# Altium schematic symbol library robot_eseo.SchLib: 97 symbols
Pins are listed as number, name and electrical type; pins without a type are passive.

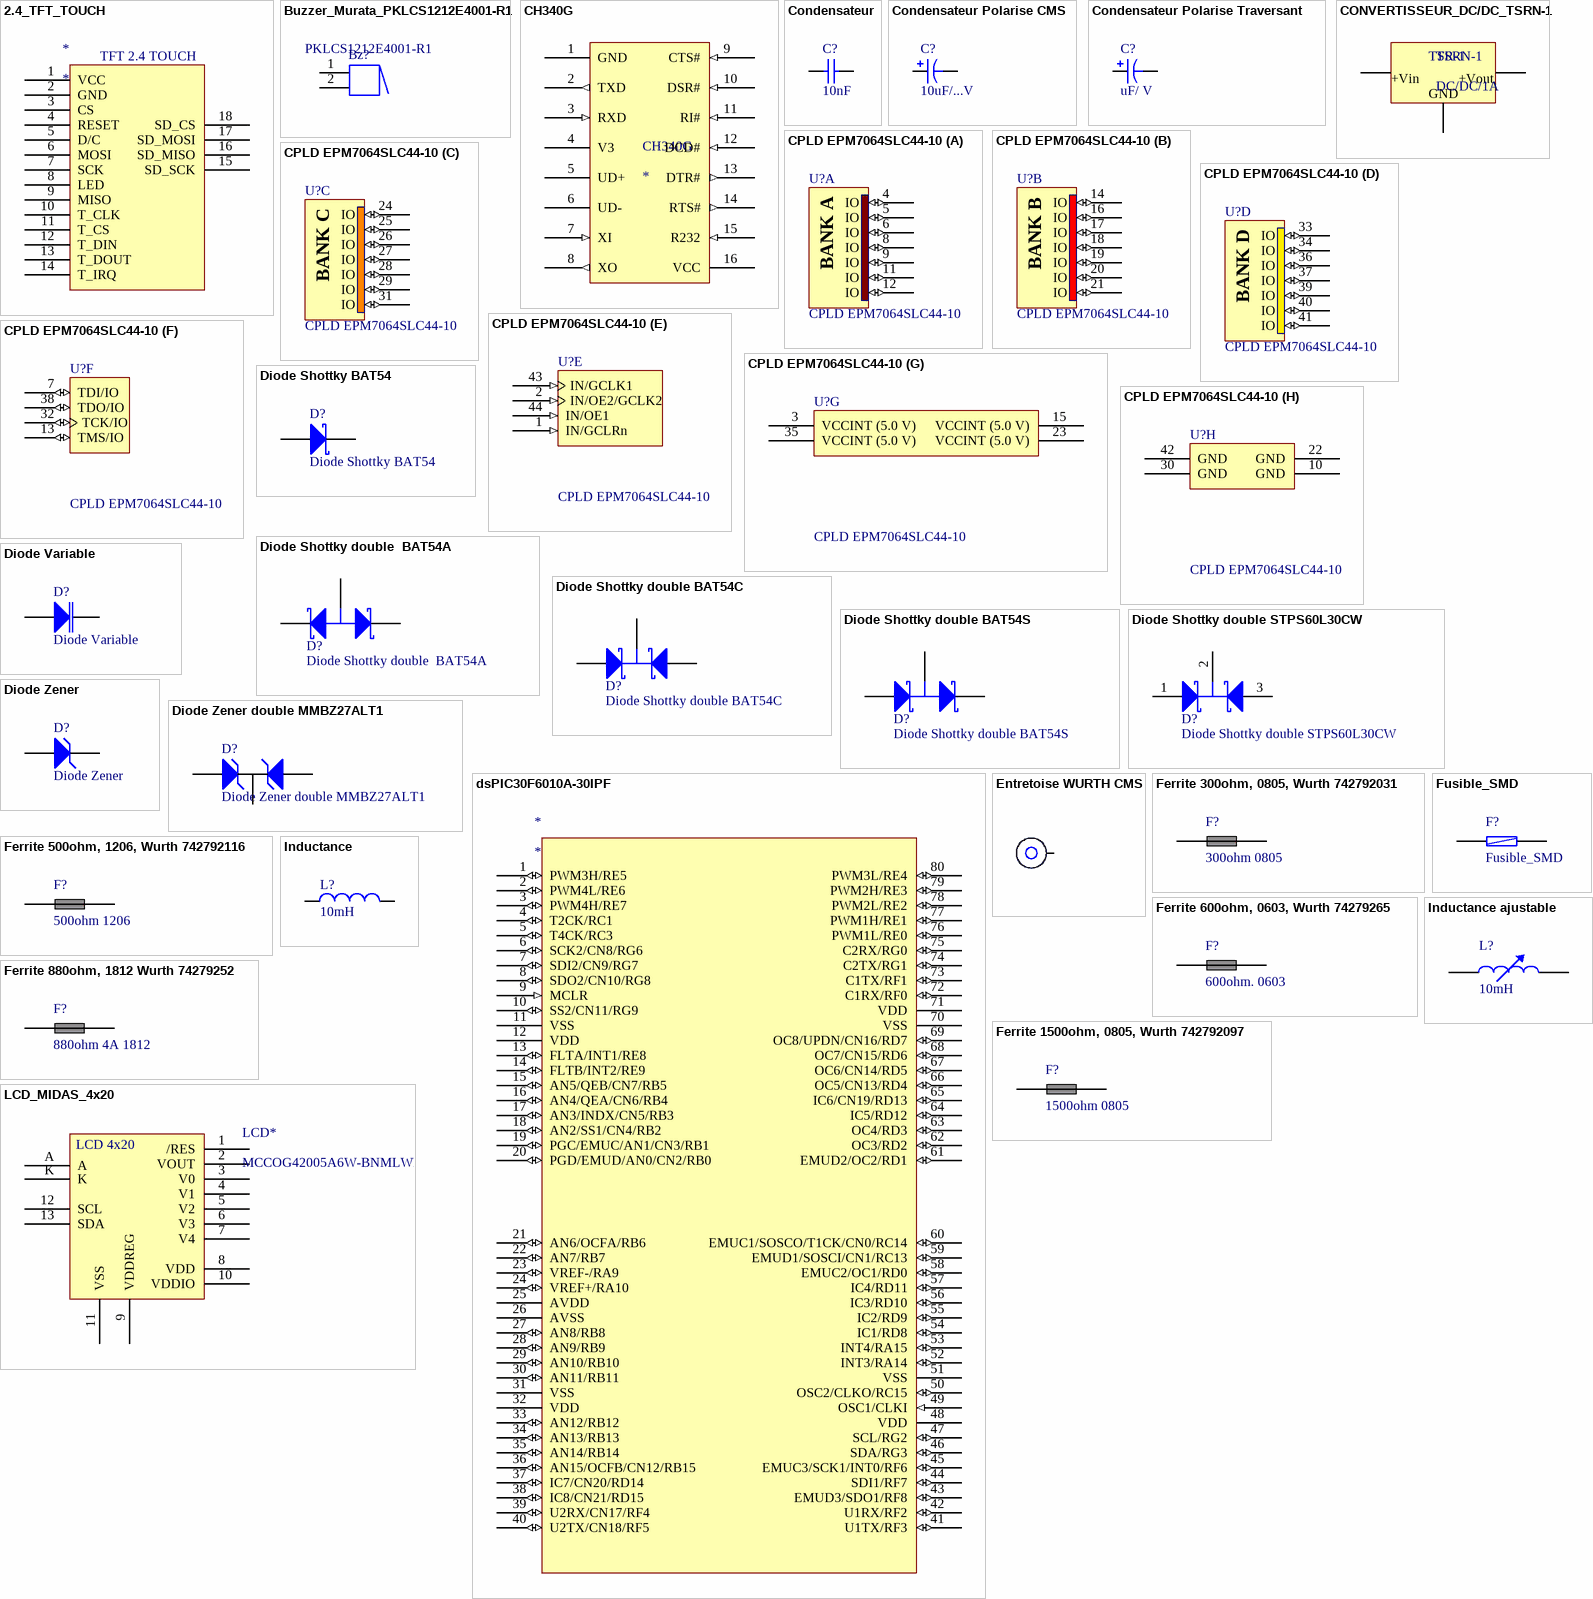
[diagram p0: symbols 2.4_TFT_TOUCH to LCD_MIDAS_4x20]

## 2.4_TFT_TOUCH
designator *
footprint 2.4_TFT_TOUCH
pins: 1 VCC, 2 GND, 3 CS, 4 RESET, 5 D/C, 6 MOSI, 7 SCK, 8 LED, 9 MISO, 10 T_CLK, 11 T_CS, 12 T_DIN, 13 T_DOUT, 14 T_IRQ, 15 SD_SCK, 16 SD_MISO, 17 SD_MOSI, 18 SD_CS
text: TFT 2.4 TOUCH

## Buzzer_Murata_PKLCS1212E4001-R1
designator Bz?  Manufacturer Part Number: PKLCS1212E4001-R1
Buzzer_Murata_PKLCS1212E4001-R1; Manufacturer: MURATA; SVHC: No SVHC (18-Jun-2010); Fonction transducteur: Sounder; Distance, niveau sonore: 10; Longueur/hauteur: 3.0; Profondeur: 12; Fréquence de résonance: 4; Niveau de bruit: 75; RoHS: YES; Category: Capteurs & Transducteurs; Supplier: Farnell; Largeur (externe): 12; ComponentLink1URL: http://www.farnell.com/datasheets/462690.pdf; ComponentLink1Description: http://www.farnell.com/datasheets/462690.pdf; Supplier Part Number: 1192551
footprint Buzzer_Murata PKLCS1212 (Buzzer_SMD_12x12mm Murata PKLCS1212)
pins: 1, 2
1 alternate drawing of the same symbol

## CH340G
designator CH340G
USB to UART
footprint SOP16
pins: 1 GND (power), 2 TXD (out), 3 RXD (in), 4 V3 (power), 5 UD+, 6 UD-, 7 XI (in), 8 XO (out), 9 CTS# (in), 10 DSR# (in), 11 RI# (in), 12 DCD# (in), 13 DTR# (out), 14 RTS# (out), 15 R232 (in), 16 VCC (power)

## Condensateur
designator C?, comment 10nF
Capacitor; Published: 8-Jun-2000; LatestRevisionDate: 17-Jul-2002; LatestRevisionNote: Re-released for DXP Platform.; PackageReference: RAD-0.3; Publisher: Altium Limited
simulation model CAP (Capacitor)
signal-integrity model Cap
footprint C0402_N (Chip Capacitor, Body 1.0x0.5mm, IPC Medium Density)
footprint C0603_N (Chip Capacitor, Body 1.6x0.8mm, IPC Medium Density)
footprint C0805_N (Chip Capacitor, Body 2.0x1.3mm, IPC Medium Density)
footprint C1206_N (Chip Capacitor, Body 3.2x1.6mm, IPC Medium Density)
footprint C1210_N (Chip Capacitor; Body 3.2 x 2.5 mm (LxW typ))
pins: 1, 2

## Condensateur Polarise CMS
designator C?, comment 10uF/...V
Polarized Capacitor; Published: 8-Jun-2000; LatestRevisionDate: 17-Jul-2002; LatestRevisionNote: Re-released for DXP Platform.; PackageReference: POLAR0.8; Publisher: Altium Limited
simulation model CAP (Capacitor)
signal-integrity model Cap Pol
footprint C3216_A_N (Capacitor Tantalium Solid,Caze A, IPC Medium Density)
footprint C3528_B_N (Capacitor Tantalium Solid,Caze B, IPC Medium Density)
footprint C6032_C_N (Capacitor Tantalium Solid,Caze C, IPC Medium Density)
footprint C7343_D_N (Capacitor Tantalium Solid,Caze D, IPC Medium Density)
footprint C7343_E_N (Capacitor Tantalium Solid,Caze E, IPC Medium Density)
footprint C7343_V_N (Capacitor Tantalium Solid,Caze V, IPC Medium Density)
footprint C_4.3mm_B (Capacitor Aluminium Electrolytic,Caze B, IPC Medium Density)
footprint C_5.3mm_C (Capacitor Aluminium Electrolytic,Caze C, IPC Medium Density)
footprint C_6.6mm_D (Capacitor Aluminium Electrolytic,Caze D, IPC Medium Density)
footprint C_6.6mm_D8 (Capacitor Aluminium Electrolytic,Caze D8, IPC Medium Density)
footprint C_8.3mm_E (Capacitor Aluminium Electrolytic,Caze E, IPC Medium Density)
footprint C_8.3mm_F (Capacitor Aluminium Electrolytic,Caze F, IPC Medium Density)
footprint C_13.5mm_H13 (Capacitor Aluminium Electrolytic,Caze H13, IPC Medium Density)
footprint C_17mm_J16 (Capacitor Aluminium Electrolytic,Caze J16, IPC Medium Density)
footprint C_19mm_K16 (Capacitor Aluminium Electrolytic,Caze K16, IPC Medium Density)
pins: 1, 2
1 alternate drawing of the same symbol

## Condensateur Polarise Traversant
designator C?, comment uF/ V
Polarized Capacitor
footprint CAPPR7.5-18X40 (Capacitor, Electrolytic, Radial; Body 18 x 40 mm (Dia.xH typ); Pin Spacing 7.5 mm (typ))
footprint CAPPR7.5-16X40 (Capacitor, Electrolytic, Radial; Body 16 x 40 mm (Dia.xH typ); Pin Spacing 7.5 mm (typ))
footprint CAPPR7.5-18X35.5 (Capacitor, Electrolytic, Radial; Body 18 x 35.5 mm (Dia.xH typ); Pin Spacing 7.5 mm (typ))
pins: 1, 2
1 alternate drawing of the same symbol

## CONVERTISSEUR_DC/DC_TSRN-1
designator TSRN-1, comment DC/DC/1A
CONVERTISSEUR_DC/DC_TSRN-1
footprint CONVERTISSEUR_DC/DC_TSR-1
pins: 1 +Vin, 2 GND, 3 +Vout
text: TSR-1

## CPLD EPM7064SLC44-10
designator U?
MAX 7000S 5V In-System Programmable CPLD, 64 Macrocells, 44-Pin PLCC, Speed Grade 10, Commercial Grade; Published: 24-Nov-2000; LatestRevisionDate: 13-Apr-2006; LatestRevisionNote: IPC-7351 Footprint Added.; DatasheetVersion: ver6.7, Sep-2005; PackageVersion: ver14.3, Jul-2006; PackageReference: PLCC44; Publisher: Altium Limited; PackageDescription: 44-Pin Plastic J-Lead Chip Carrier (PLCC44); Code_JEDEC: MS-018-AC; Code_IPC: PLCC-44; ComponentLink1Description: Manufacturer Link; ComponentLink1URL: http://www.altera.com/products/devices/max7k/m7k-index.html; ComponentLink2Description: Datasheet; ComponentLink2URL: http://www.altera.com/literature/ds/m7000.pdf; ComponentLink3Description: Packaging Specification; ComponentLink3URL: http://www.altera.com/literature/ds/dspkg.pdf
footprint PLCC44_N (Leaded Chip Carrier, 44-Leads, Body 16.6x16.6mm, Pitch 1.27mm, IPC Medium Density)
footprint PLCC44_L (Leaded Chip Carrier, 44-Leads, Body 16.6x16.6mm, Pitch 1.27mm, IPC High Density)
footprint PLCC44_M (Leaded Chip Carrier, 44-Leads, Body 16.6x16.6mm, Pitch 1.27mm, IPC Low Density)
3D model EPM7064S-PLCC44 (44-Pin Plastic J-Lead Chip Carrier (PLCC44))
signal-integrity model 7k (MAX 7000S)
part A pins: 4 IO (io), 5 IO (io), 6 IO (io), 8 IO (io), 9 IO (io), 11 IO (io), 12 IO (io)
part B pins: 14 IO (io), 16 IO (io), 17 IO (io), 18 IO (io), 19 IO (io), 20 IO (io), 21 IO (io)
part C pins: 24 IO (io), 25 IO (io), 26 IO (io), 27 IO (io), 28 IO (io), 29 IO (io), 31 IO (io)
part D pins: 33 IO (io), 34 IO (io), 36 IO (io), 37 IO (io), 39 IO (io), 40 IO (io), 41 IO (io)
part E pins: 1 IN/GCLRn (in), 2 IN/OE2/GCLK2 (in), 43 IN/GCLK1 (in), 44 IN/OE1 (in)
part F pins: 7 TDI/IO (io), 13 TMS/IO (io), 32 TCK/IO (io), 38 TDO/IO (io)
part G pins: 3 VCCINT (5.0 V) (power), 15 VCCINT (5.0 V) (power), 23 VCCINT (5.0 V) (power), 35 VCCINT (5.0 V) (power)
part H pins: 10 GND (power), 22 GND (power), 30 GND (power), 42 GND (power)
part A text: BANK A
part B text: BANK B
part C text: BANK C
part D text: BANK D

## Diode Shottky BAT54
designator D?
DIODE, SCHOTTKY, SOT-23; ComponentLink1URL: http://www.farnell.com/datasheets/62627.pdf; ComponentLink1Description: http://www.farnell.com/datasheets/62627.pdf; Supplier Part Number: 1621832; Supplier: Farnell; Pricing: 10=0,074, 250=0,054, 1000=0,044, 3000=0,038 (EUR); Manufacturer Part Number: BAT54; RoHS: YES
simulation model BAT54 (SUBCKT)
signal-integrity model BAT54
footprint SOT23-3N (SOT23, 3-Leads, Body 2.9x1.3mm, Pitch 0.95mm, Lead Span 2.5mm, IPC Medium Density)
pins: 1 A, 3 K

## Diode Shottky double  BAT54A
designator D?
DIODE SCHOTTKY DOUBLE; Manufacturer: ZETEX; ComponentLink1URL: http://www.farnell.com/datasheets/27632.pdf; ComponentLink1Description: http://www.farnell.com/datasheets/27632.pdf; Supplier Part Number: 9526498; Supplier: Farnell; RoHS: YES; Manufacturer Part Number: BAT54A
simulation model BAT54A (SUBCKT)
signal-integrity model BAT54A
footprint SOT23-3N (SOT23, 3-Leads, Body 2.9x1.3mm, Pitch 0.95mm, Lead Span 2.5mm, IPC Medium Density)
pins: 1 K1, 2 K2, 3 A

## Diode Shottky double BAT54C
designator D?
DIODE SCHOTTKY DOUBLE; Manufacturer: ZETEX; Diode Case Style: SOT-23; Supplier Part Number: 9526501; Supplier: Farnell; ComponentLink1URL: http://www.farnell.com/datasheets/27632.pdf; ComponentLink1Description: http://www.farnell.com/datasheets/27632.pdf; Pricing: 5=0,32, 25=0,23, 100=0,198, 1000=0,154 (EUR); RoHS: YES; Manufacturer Part Number: BAT54C
simulation model BAT54C (SUBCKT)
signal-integrity model BAT54C
footprint SOT23-3N (SOT23, 3-Leads, Body 2.9x1.3mm, Pitch 0.95mm, Lead Span 2.5mm, IPC Medium Density)
pins: 1 A1, 2 A2, 3 K

## Diode Shottky double BAT54S
designator D?
DIODE SCHOTTKY DOUBLE; Manufacturer: ZETEX; ComponentLink1URL: http://www.farnell.com/datasheets/27632.pdf; ComponentLink1Description: http://www.farnell.com/datasheets/27632.pdf; Supplier: Farnell; RoHS: YES; Supplier Part Number: 9526510; Pricing: 5=0,32, 25=0,26, 100=0,21, 1000=0,17 (EUR); Manufacturer Part Number: BAT54S
simulation model BAT54S (SUBCKT)
signal-integrity model BAT54S
footprint SOT23-3N (SOT23, 3-Leads, Body 2.9x1.3mm, Pitch 0.95mm, Lead Span 2.5mm, IPC Medium Density)
pins: 1 A, 2 K, 3 C

## Diode Shottky double STPS60L30CW
designator D?
DIODE SCHOTTKY DOUBLE; Manufacturer Part Number: BAT54C; Manufacturer: ZETEX; Diode Case Style: SOT-23; Supplier Part Number: 9526501; Supplier: Farnell; ComponentLink1URL: http://www.farnell.com/datasheets/27632.pdf; ComponentLink1Description: http://www.farnell.com/datasheets/27632.pdf; Pricing: 5=0,32, 25=0,23, 100=0,198, 1000=0,154 (EUR); RoHS: YES
simulation model BAT54C (SUBCKT)
signal-integrity model BAT54C
footprint TO247 (TO, Thru-Hole, Vertical, Heatsink Mounted; 3 In-Line Leads)
pins: 1 A1, 2 K, 3 A2

## Diode Variable
designator D?
Variable Capacitance Diode; Note: Pin 2 is not connected and not drawn.; Published: 8-Jun-2000; LatestRevisionDate: 17-Jul-2002; LatestRevisionNote: Re-released for DXP Platform.; DatasheetDocument: Jan-1998; PackageReference: SOT23A; Publisher: Altium Limited; Code_JEDEC: SOT23; ComponentLink1Description: Manufacturer Link; ComponentLink1URL: http://www.zetex.com/
simulation model BBY31 (Diode)
signal-integrity model D Varactor
pins: 1 A, 2 K

## Diode Zener
designator D?
Zener Diode
simulation model ZENER (Diode)
pins: 1 A, 2 K

## Diode Zener double MMBZ27ALT1
designator D?
Zener Transient Voltage  Suppressors; Published: 29-Sep-2000; LatestRevisionDate: 17-Jul-2002; LatestRevisionNote: Re-released for DXP Platform.; PackageReference: 318-07; Publisher: Altium Limited; PackageDescription: SOT-23; 3 Leads; Body 3.0 x 2.5 mm, inc. leads (LxW max); ComponentLink1Description: Manufacturer Link; ComponentLink1URL: http://www.onsemi.com/site/products/landing?taxonomyID=194; ComponentLink2Description: Datasheet; ComponentLink2URL: http://www.onsemi.com/pub/Collateral/MMBZ5221BLT1-D.PDF
footprint SOT23-3N (SOT23, 3-Leads, Body 2.9x1.3mm, Pitch 0.95mm, Lead Span 2.5mm, IPC Medium Density)
pins: 1 A1, 2 A2, 3 K

## dsPIC30F6010A-30IPF
designator *
footprint TQFP80_N (80-Pin Thin Plastic Quad Flat Pack 0.65 mm Pitch, IPC Medium Density)
footprint TQFP80_N (80-Pin Thin Plastic Quad Flat Pack 0.65 mm Pitch, IPC Medium Density)
pins: 1 PWM3H/RE5 (io), 2 PWM4L/RE6 (io), 3 PWM4H/RE7 (io), 4 T2CK/RC1 (io), 5 T4CK/RC3 (io), 6 SCK2/CN8/RG6 (io), 7 SDI2/CN9/RG7 (io), 8 SDO2/CN10/RG8 (io), 9 MCLR (in), 10 SS2/CN11/RG9 (io), 11 VSS (power), 12 VDD (power), 13 FLTA/INT1/RE8 (io), 14 FLTB/INT2/RE9 (io), 15 AN5/QEB/CN7/RB5 (io), 16 AN4/QEA/CN6/RB4 (io), 17 AN3/INDX/CN5/RB3 (io), 18 AN2/SS1/CN4/RB2 (io), 19 PGC/EMUC/AN1/CN3/RB1 (io), 20 PGD/EMUD/AN0/CN2/RB0 (io), 21 AN6/OCFA/RB6 (io), 22 AN7/RB7 (io), 23 VREF-/RA9 (io), 24 VREF+/RA10 (io), 25 AVDD (power), 26 AVSS (power), 27 AN8/RB8 (io), 28 AN9/RB9 (io), 29 AN10/RB10 (io), 30 AN11/RB11 (io), 31 VSS (power), 32 VDD (power), 33 AN12/RB12 (io), 34 AN13/RB13 (io), 35 AN14/RB14 (io), 36 AN15/OCFB/CN12/RB15 (io), 37 IC7/CN20/RD14 (io), 38 IC8/CN21/RD15 (io), 39 U2RX/CN17/RF4 (io), 40 U2TX/CN18/RF5 (io), 41 U1TX/RF3 (io), 42 U1RX/RF2 (io), 43 EMUD3/SDO1/RF8 (io), 44 SDI1/RF7 (io), 45 EMUC3/SCK1/INT0/RF6 (io), 46 SDA/RG3 (io), 47 SCL/RG2 (io), 48 VDD (power), 49 OSC1/CLKI (in), 50 OSC2/CLKO/RC15 (io), 51 VSS (power), 52 INT3/RA14 (io), 53 INT4/RA15 (io), 54 IC1/RD8 (io), 55 IC2/RD9 (io), 56 IC3/RD10 (io), 57 IC4/RD11 (io), 58 EMUC2/OC1/RD0 (io), 59 EMUD1/SOSCI/CN1/RC13 (io), 60 EMUC1/SOSCO/T1CK/CN0/RC14 (io), 61 EMUD2/OC2/RD1 (io), 62 OC3/RD2 (io), 63 OC4/RD3 (io), 64 IC5/RD12 (io), 65 IC6/CN19/RD13 (io), 66 OC5/CN13/RD4 (io), 67 OC6/CN14/RD5 (io), 68 OC7/CN15/RD6 (io), 69 OC8/UPDN/CN16/RD7 (io), 70 VSS (power), 71 VDD (power), 72 C1RX/RF0 (io), 73 C1TX/RF1 (io), 74 C2TX/RG1 (io), 75 C2RX/RG0 (io), 76 PWM1L/RE0 (io), 77 PWM1H/RE1 (io), 78 PWM2L/RE2 (io), 79 PWM2H/RE3 (io), 80 PWM3L/RE4 (io)

## Entretoise WURTH CMS
designator MH?
Entretoise Wurth; Publisher: Damien Guitton
footprint ENTRETOISE_CMS (Entretoise CMS Wurth trou 4.4mm)
pins: 1

## Ferrite 300ohm, 0805, Wurth 742792031
designator F?, comment 300ohm 0805
Ferrite 300ohm, 0805, Wurth 742792031; Manufacturer: WURTH ELEKTRONIK; Courant: 3000; Résistance: 0.05; Type de boîtier: 0805; Impédance, typique à 100MHz: 300; Série: WE-CBF; RoHS: YES; Supplier Part Number: 1635734; Supplier: Farnell; Category: Composants passifs; ComponentLink1URL: http://www.farnell.com/datasheets/69101.pdf; ComponentLink1Description: http://www.farnell.com/datasheets/69101.pdf; Manufacturer Part Number: 742792031
footprint R0805_N (Chip Resistor, Body 2.0x1.3mm, IPC Medium Density)
pins: 1, 2

## Ferrite 500ohm, 1206, Wurth 742792116
designator F?, comment 500ohm 1206
Ferrite 500ohm, 1206, Wurth 742792116; Manufacturer: WUERTH ELEKTRONIK; Type de boîtier: 1206; Courant: 2500; Résistance: 0.06; Impédance, typique à 100MHz: 500; Série: WE-CBF; ComponentLink1URL: http://www.farnell.com/datasheets/69169.pdf; ComponentLink1Description: http://www.farnell.com/datasheets/69169.pdf; Category: Composants passifs; RoHS: YES; Manufacturer Part Number: 742792116; Pricing: 1=0,26, 10=0,23, 50=0,21, 100=0,2, 250=0,19 (EUR); Supplier 1: Newark; Supplier Part Number 1: 08P2392; Supplier 2: Farnell; Supplier Part Number 2: 1635757
footprint R1206_N (Chip Resistor, Body 3.2x1.6mm, IPC Medium Density)
pins: 1, 2

## Ferrite 600ohm, 0603, Wurth 74279265
designator F?, comment 600ohm. 0603
Ferrite 600ohm, 0603, Wurth 74279265; Manufacturer: WURTH ELEKTRONIK; Type de boîtier: 0603; Impédance, typique à 100MHz: 600; Courant: 200; Résistance: 0.45; Série: WE-CBF; ComponentLink1URL: http://www.farnell.com/datasheets/68993.pdf; ComponentLink1Description: http://www.farnell.com/datasheets/68993.pdf; Pricing: 1=0,13, 10=0,11, 50=0,1, 100=0,09, 250=0,08 (EUR); Supplier Part Number: 1635691; Supplier: Farnell; RoHS: YES; Category: Composants passifs; Manufacturer Part Number: 74279265
footprint R0603_N (Chip Resistor, Body 1.6x0.8mm, IPC Medium Density)
pins: 1, 2

## Ferrite 880ohm, 1812 Wurth 74279252
designator F?, comment 880ohm 4A 1812
Ferrite 880ohm, 1812 Wurth 74279252; Manufacturer: WUERTH ELEKTRONIK; Impédance, typique à 100MHz: 880; Courant: 4000; Série: WE-CBF; Résistance: 0.035; Type de boîtier: 1812; ComponentLink1URL: http://www.farnell.com/datasheets/494580.pdf; ComponentLink1Description: http://www.farnell.com/datasheets/494580.pdf; Supplier: Farnell; RoHS: YES; Category: Composants passifs; Supplier Part Number: 1635781; Pricing: 1=0,3, 10=0,27, 50=0,25, 100=0,24, 250=0,22 (EUR); Manufacturer Part Number: 74279252
footprint R0603_N (Chip Resistor, Body 1.6x0.8mm, IPC Medium Density)
footprint R1812_N (Molded resistor, 2-Leads, Body 4,5x3,2mm, IPC Medium Density)
pins: 1, 2

## Ferrite 1500ohm, 0805, Wurth 742792097
designator F?, comment 1500ohm 0805
Ferrite 1500ohm, 0805, Wurth 742792097; Manufacturer: WUERTH ELEKTRONIK; Résistance: 0.3; Type de boîtier: 0805; Série: WE-CBF; Impédance, typique à 100MHz: 1500; Courant: 1000; Supplier 1: Farnell; Supplier Part Number 1: 1635738; Supplier 2: Newark; Supplier Part Number 2: 08P2386; ComponentLink1URL: http://www.farnell.com/datasheets/69111.pdf; ComponentLink1Description: http://www.farnell.com/datasheets/69111.pdf; RoHS: YES; Category: Composants passifs; Manufacturer Part Number: 742792097; Pricing: 1=0,2, 10=0,17, 50=0,14, 100=0,13, 250=0,12 (EUR)
footprint R0805_N (Chip Resistor, Body 2.0x1.3mm, IPC Medium Density)
pins: 1, 2

## Fusible_SMD
designator F?
Fuse; Published: 8-Jun-2000; LatestRevisionDate: 17-Jul-2002; LatestRevisionNote: Re-released for DXP Platform.; PackageReference: PIN-W2/E2.8; Publisher: Altium Limited
simulation model FUSE (Spice Subcircuit)
footprint R0805_N (Chip Resistor, Body 2.0x1.3mm, IPC Medium Density)
footprint R0603_N (Chip Resistor, Body 1.6x0.8mm, IPC Medium Density)
pins: 1, 2

## Inductance
designator L?, comment 10mH
Inductor; Code_IEC: 1005; Published: 8-Jun-2000; LatestRevisionDate: 17-Jul-2002; LatestRevisionNote: Re-released for DXP Platform.; PackageReference: 0402-A; Publisher: Altium Limited; Code_JEITA: 0402
simulation model INDUCTOR (Inductor)
signal-integrity model Inductor
footprint R0201_N (Chip Resistor, Body 0.6x0.3mm, IPC Medium Density)
footprint R0402_N (Chip Resistor, Body 1.1x0.5mm, IPC Medium Density)
footprint R0805_N (Chip Resistor, Body 2.0x1.3mm, IPC Medium Density)
footprint R1206_N (Chip Resistor, Body 3.2x1.6mm, IPC Medium Density)
footprint R2010_N (Chip Resistor, Body 5.0x2.5mm, IPC Medium Density)
footprint R2512_N (Chip Resistor, Body 6.3x3.2mm, IPC Medium Density)
footprint INDUCTOR_Wurth_M (Inductor, 2-Leads, Body 8,0x7,3mm, IPC Medium Density)
footprint INDUCTOR_WURTH_XLH (Inductor, 2-Leads, Body 10x10mm, IPC Medium Density)
pins: 1, 2

## Inductance ajustable
designator L?, comment 10mH
Adjustable Inductor; Set Position: 0.5; Published: 24-Mar-1999; LatestRevisionDate: 17-Jul-2002; LatestRevisionNote: Re-released for DXP Platform.; PackageReference: AXIAL-0.8; Publisher: Altium Limited
footprint AXIAL-0.8 (Adjustable Inductor; 2 Leads)
simulation model INDUCTOR (Inductor)
signal-integrity model Inductor Adj
pins: 1, 2

## LCD_MIDAS_4x20
designator LCD*, comment MCCOG42005A6W-BNMLWI
FAR: 2218946
footprint MIDAS_LCD_4X20 (MCCOG42005A6W-BNMLWI)
pins: 1 /RES, 2 VOUT, 3 V0, 4 V1, 5 V2, 6 V3, 7 V4, 8 VDD, 9 VDDREG, 10 VDDIO, 11 VSS, 12 SCL, 13 SDA, A, K
text: LCD 4x20

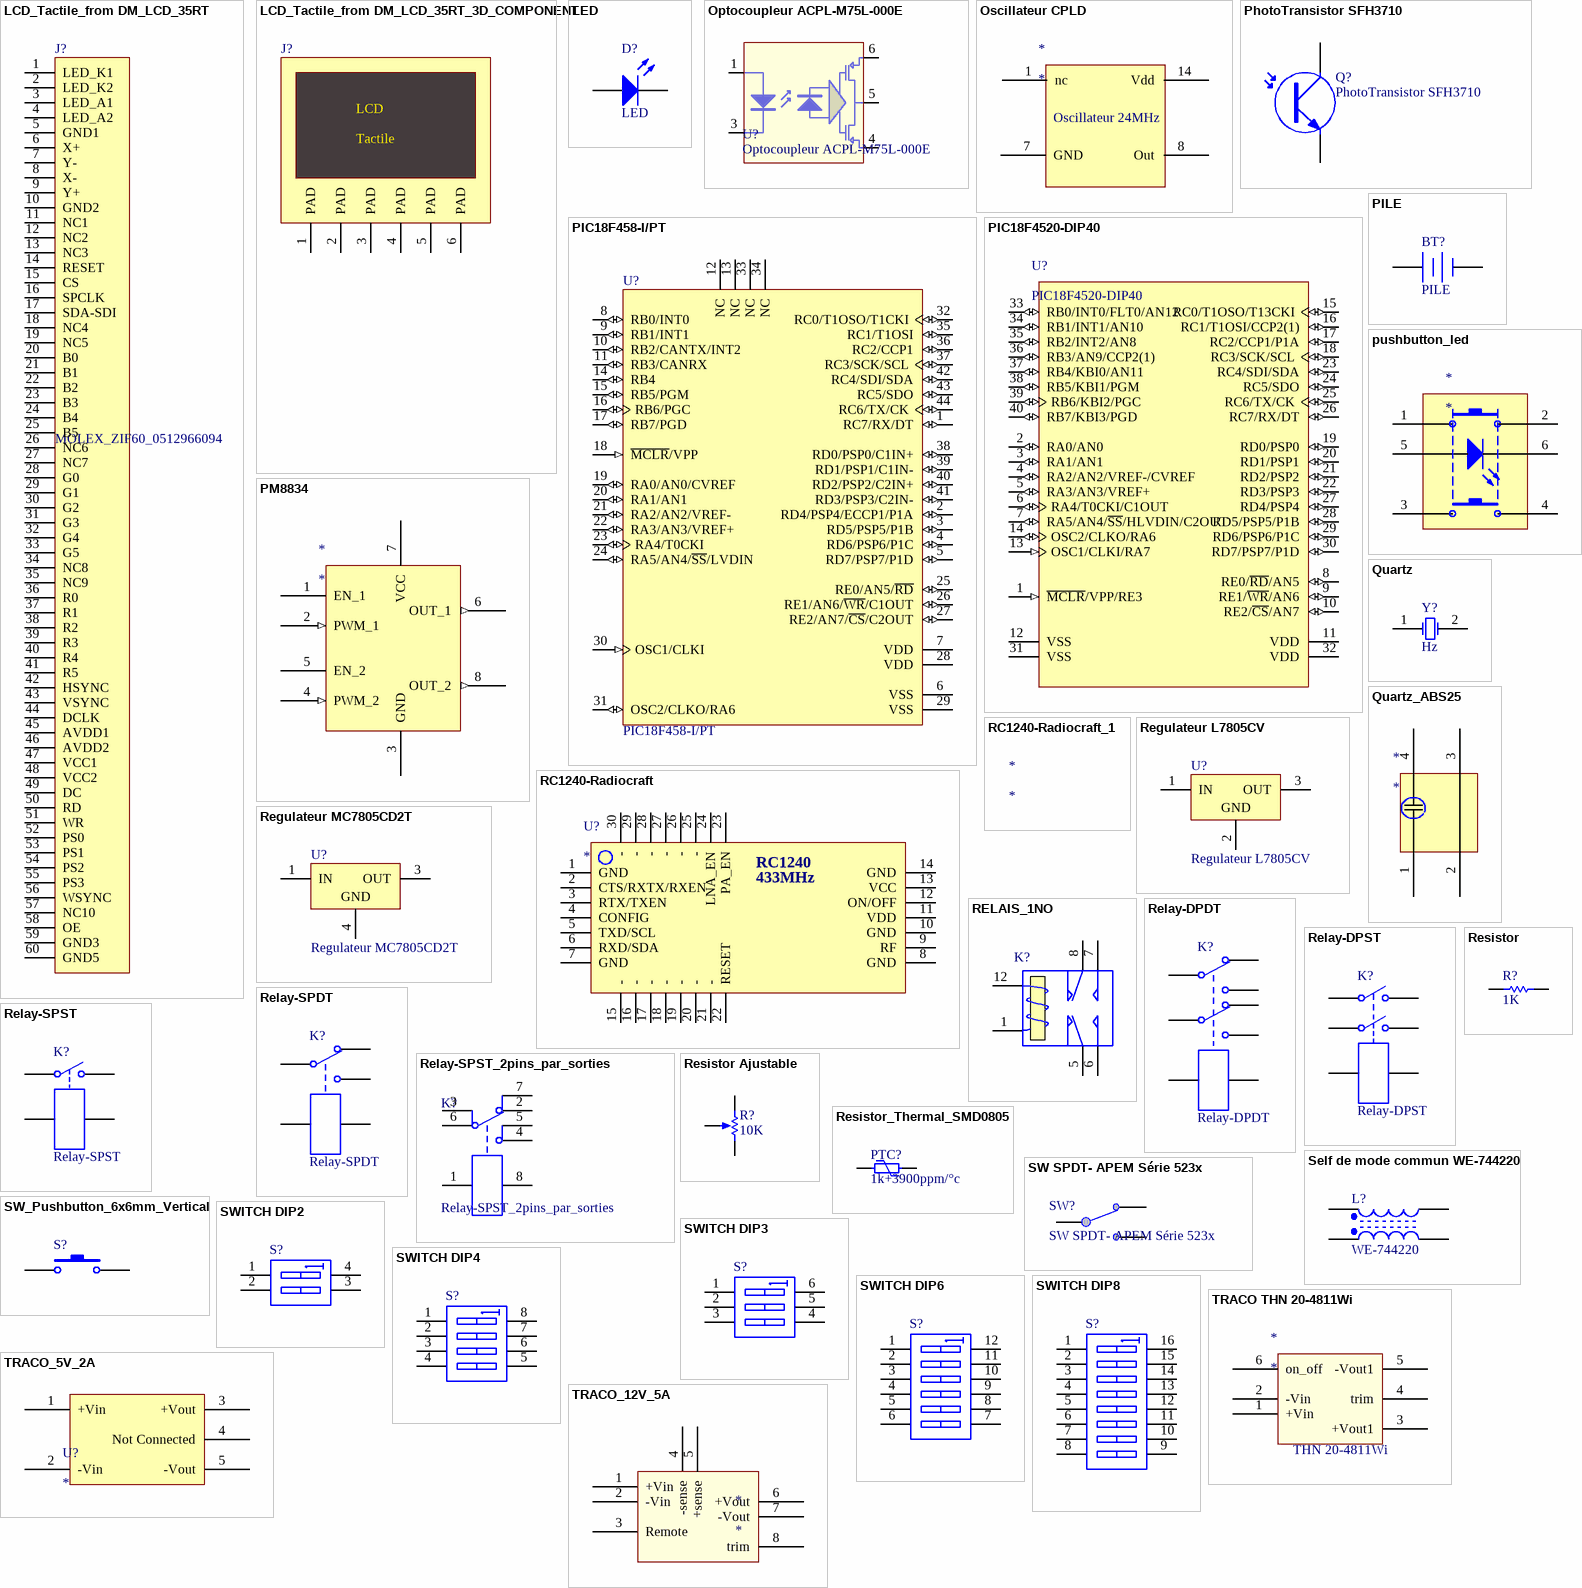
[diagram p1: symbols LCD_Tactile_from DM_LCD_35RT to TRACO_12V_5A]

## LCD_Tactile_from DM_LCD_35RT
designator J?, comment MOLEX_ZIF60_0512966094
Header for ZIF cable, 60-Pin, pitch 0.5mm; LatestRevisionDate: 17-Jul-2002; LatestRevisionNote: Re-released for DXP Platform.; Publisher: Altium Limited
signal-integrity model Connector
footprint ZIF60_0.5MM (Footprint not found)
pins: 1 LED_K1, 2 LED_K2, 3 LED_A1, 4 LED_A2, 5 GND1, 6 X+, 7 Y-, 8 X-, 9 Y+, 10 GND2, 11 NC1, 12 NC2, 13 NC3, 14 RESET, 15 CS, 16 SPCLK, 17 SDA-SDI, 18 NC4, 19 NC5, 20 B0, 21 B1, 22 B2, 23 B3, 24 B4, 25 B5, 26 NC6, 27 NC7, 28 G0, 29 G1, 30 G2, 31 G3, 32 G4, 33 G5, 34 NC8, 35 NC9, 36 R0, 37 R1, 38 R2, 39 R3, 40 R4, 41 R5, 42 HSYNC, 43 VSYNC, 44 DCLK, 45 AVDD1, 46 AVDD2, 47 VCC1, 48 VCC2, 49 DC, 50 RD, 51 WR, 52 PS0, 53 PS1, 54 PS2, 55 PS3, 56 WSYNC, 57 NC10, 58 OE, 59 GND3, 60 GND5

## LCD_Tactile_from DM_LCD_35RT_3D_COMPONENT
designator J?
Header for ZIF cable, 60-Pin, pitch 0.5mm; LatestRevisionDate: 17-Jul-2002; LatestRevisionNote: Re-released for DXP Platform.; Publisher: Altium Limited
signal-integrity model Connector
footprint LCD_FS-K350QVG-V2-F-01 (FS-K350QVG-V2-F-01)
pins: 1 PAD, 2 PAD, 3 PAD, 4 PAD, 5 PAD, 6 PAD
text: LCD; Tactile

## LED
designator D?
Typical LED; Published: 8-Jun-2000; LatestRevisionDate: 08-Jul-2005; LatestRevisionNote: Mech Layer 1 removed.; PackageReference: LED-1; Publisher: Altium Limited
footprint LED_1206 (SM LED; 2 Flat Leads)
footprint LED_0805 (SM LED; 2 Flat Leads)
footprint LED_3mm (LED 3mm; 2 Leads)
footprint LED_5mm (LED 5mm; 2 Leads)
footprint LED_3mm (LED 3mm; 2 Leads)
footprint LED_5mm (LED 5mm; 2 Leads)
footprint LED_0805 (SM LED; 2 Flat Leads)
footprint LED_1206 (SM LED; 2 Flat Leads)
pins: 1 A, 2 K

## Optocoupleur ACPL-M75L-000E
designator U?
Single-channel High Speed 15 MBd CMOS optocoupler; Manufacturer Part Number: ACPL-M61T-500E; Manufacturer: Avago Technologies US Inc.; Package / Case: 5-SOP
footprint SOP5 (Small Outline; 6 Leads (1 Absent); Body Width 4.4 mm; Pitch 1.27 mm)
pins: 1 A "Anode", 3 K "Cathode", 4 GND (power), 5 VO, 6 VDD (power)

## Oscillateur CPLD
designator *
footprint DIL14_OSCILLATEUR (Footprint not found)
pins: 1 nc, 7 GND, 8 Out, 14 Vdd
text: Oscillateur 24MHz

## PhotoTransistor SFH3710
designator Q?
NPN Phototransistor, Osram
footprint LED_0805 (SM LED; 2 Flat Leads)
pins: 1 C, 2 E

## PIC18F458-I/PT
designator U?
High Performance, Enhanced FLASH Microcontroller with CAN, 32K FLASH, 44-Pin TQFP, Standard Volt Range, Industrial Temperature; Published: 11-Oct-2004; LatestRevisionDate: 13-Apr-2006; LatestRevisionNote: IPC-7351 Footprint Added.; DatasheetVersion: DS41159C_2003; PackageVersion: 2003; PackageReference: TQFP-44; Publisher: Altium Limited; PackageDescription: 44-Pin Thin Quad Flat Pack 0.8 mm Pitch, 1.0/0.1 mm Lead Form; Code_JEDEC: MS-026; ComponentLink1Description: Manufacturer Link; ComponentLink1URL: http://www.microchip.com; ComponentLink2Description: Datasheet; ComponentLink2URL: http://ww1.microchip.com/downloads/en/DeviceDoc/41159c.pdf; ComponentLink3Description: Packaging Specification; ComponentLink3URL: http://ww1.microchip.com/downloads/en/PackagingSpec/00049AD.pdf
footprint TQFP-44_N (Thin QFP, 44-Leads, Body 10x10mm, Pitch 0.8mm, IPC Medium Density)
pins: 1 RC7/RX/DT (io), 2 RD4/PSP4/ECCP1/P1A (io), 3 RD5/PSP5/P1B (io), 4 RD6/PSP6/P1C (io), 5 RD7/PSP7/P1D (io), 6 VSS (power), 7 VDD (power), 8 RB0/INT0 (io), 9 RB1/INT1 (io), 10 RB2/CANTX/INT2 (io), 11 RB3/CANRX (io), 12 NC, 13 NC, 14 RB4 (io), 15 RB5/PGM (io), 16 RB6/PGC (io), 17 RB7/PGD (io), 18 ~{MCLR}/VPP (in), 19 RA0/AN0/CVREF (io), 20 RA1/AN1 (io), 21 RA2/AN2/VREF- (io), 22 RA3/AN3/VREF+ (io), 23 RA4/T0CKI (io), 24 RA5/AN4/~{SS}/LVDIN (io), 25 RE0/AN5/~{RD} (io), 26 RE1/AN6/~{WR}/C1OUT (io), 27 RE2/AN7/~{CS}/C2OUT (io), 28 VDD (power), 29 VSS (power), 30 OSC1/CLKI (in), 31 OSC2/CLKO/RA6 (io), 32 RC0/T1OSO/T1CKI (io), 33 NC, 34 NC, 35 RC1/T1OSI (io), 36 RC2/CCP1 (io), 37 RC3/SCK/SCL (io), 38 RD0/PSP0/C1IN+ (io), 39 RD1/PSP1/C1IN- (io), 40 RD2/PSP2/C2IN+ (io), 41 RD3/PSP3/C2IN- (io), 42 RC4/SDI/SDA (io), 43 RC5/SDO (io), 44 RC6/TX/CK (io)

## PIC18F4520-DIP40
designator U?
High Performance, Enhanced Flash Microcontrollers  with 10-Bit A/D, 32K FLASH, 40-Pin PDIP, Standard Volt Range, Industrial Temperature; Type: PIC18F4520-DIP40
footprint DIP40(15.24) (DIP, Ceramic, Window; 40 Leads; Row Spacing 15.24 mm; Pitch 2.54 mm)
pins: 1 ~{MCLR}/VPP/RE3 (in), 2 RA0/AN0 (io), 3 RA1/AN1 (io), 4 RA2/AN2/VREF-/CVREF (io), 5 RA3/AN3/VREF+ (io), 6 RA4/T0CKI/C1OUT (io), 7 RA5/AN4/~{SS}/HLVDIN/C2OUT (io), 8 RE0/~{RD}/AN5 (io), 9 RE1/~{WR}/AN6 (io), 10 RE2/~{CS}/AN7 (io), 11 VDD (power), 12 VSS (power), 13 OSC1/CLKI/RA7 (in), 14 OSC2/CLKO/RA6 (io), 15 RC0/T1OSO/T13CKI (io), 16 RC1/T1OSI/CCP2(1) (io), 17 RC2/CCP1/P1A (io), 18 RC3/SCK/SCL (io), 19 RD0/PSP0 (io), 20 RD1/PSP1 (io), 21 RD2/PSP2 (io), 22 RD3/PSP3 (io), 23 RC4/SDI/SDA (io), 24 RC5/SDO (io), 25 RC6/TX/CK (io), 26 RC7/RX/DT (io), 27 RD4/PSP4 (io), 28 RD5/PSP5/P1B (io), 29 RD6/PSP6/P1C (io), 30 RD7/PSP7/P1D (io), 31 VSS (power), 32 VDD (power), 33 RB0/INT0/FLT0/AN12 (io), 34 RB1/INT1/AN10 (io), 35 RB2/INT2/AN8 (io), 36 RB3/AN9/CCP2(1) (io), 37 RB4/KBI0/AN11 (io), 38 RB5/KBI1/PGM (io), 39 RB6/KBI2/PGC (io), 40 RB7/KBI3/PGD (io)

## PILE
designator BT?
Multicell Battery; Published: 24-Mar-1999; LatestRevisionDate: 17-Jul-2002; LatestRevisionNote: Re-released for DXP Platform.; PackageReference: BAT-2; Publisher: Altium Limited
footprint PILE_CR2032_H (Pile Lithium; CR2032; Horizontal; Fix:18mm/10.16mm)
footprint PILE_CR2032_V (Pile Lithium; CR2032; Vertical; 10X4.2mm:Fix; Diameter:21.5)
footprint PILE_LITHIUM_3.6V_LR6 (Lithium SL760/pr; 50.5mm/14.7mm; Pad Spacing=50.5mm/10.16mm)
footprint SUPPORT_PILE_9V (AA SIZE BATTERY HOLDER; Open style; Pin Spacing Fix=14mm; Pin Spacing=12.7mm)
footprint SUPPORT_PILE_LR03 (AAA SIZE BATTERY HOLDER; Open style; Pin Spacing Fix=27.9mm; Pin Spacing=48.9mm)
footprint SUPPORT_PILE_LR6 (AA SIZE BATTERY HOLDER; Open style; Pin Spacing Fix=33mm; Pin Spacing=56.8mm)
pins: 1 +, 2 -

## PM8834
designator *
4 A dual low-side MOSFET driver
footprint SO8_N (8-Pin Small Outline Integrated Circuit 1.27 mm Pitch, IPC Medium Density)
pins: 1 EN_1, 2 PWM_1 (in), 3 GND (power), 4 PWM_2 (in), 5 EN_2, 6 OUT_1 (out), 7 VCC (power), 8 OUT_2 (out)

## pushbutton_led
designator *
footprint PUSHBUTTON_LED
pins: 1, 2 3, 3, 4, 5 +, 6 -

## Quartz
designator Y?, comment Hz
Crystal Oscillator; Published: 8-Jun-2000; LatestRevisionDate: 17-Jul-2002; LatestRevisionNote: Re-released for DXP Platform.; PackageReference: R38; Publisher: Altium Limited
simulation model XTAL (Spice Subcircuit)
footprint HC49/4H_SMX (Quartz Crystal, SM; Body 13.4 (inc. leads) x 4.9 mm (LxW max))
footprint HC49US (Quartz Crystal, HC49 Bas profil, Pas 4,88mm)
pins: 1 OSC1, 2 OSC2

## Quartz_ABS25
designator *
footprint Quartz_ABS25
pins: 1, 2, 3, 4

## RC1240-Radiocraft
designator U?
RC1240 - Radiocraft 433MHz Transceiver
footprint RC1240
pins: 1 GND, 2 CTS/RXTX/RXEN, 3 RTX/TXEN, 4 CONFIG, 5 TXD/SCL, 6 RXD/SDA, 7 GND, 8 GND, 9 RF, 10 GND, 11 VDD, 12 ON/OFF, 13 VCC, 14 GND, 15 -, 16 -, 17 -, 18 -, 19 -, 20 -, 21 -, 22 RESET, 23 PA_EN, 24 LNA_EN, 25 -, 26 -, 27 -, 28 -, 29 -, 30 -
text: RC1240; 433MHz

## RC1240-Radiocraft_1
designator *

## Regulateur L7805CV
designator U?
Positive Voltage Regulator; Note: Tab is connected to pin 3 (GND).; Published: 24-Aug-2001; LatestRevisionDate: 17-Jul-2002; LatestRevisionNote: Re-released for DXP Platform.; DatasheetVersion: Dec-1998; PackageVersion: Jun-1998; PackageReference: TO220; Publisher: Altium Limited; PackageDescription: TO, Thru-Hole, Vertical, Heatsink Mounted; 3 In-Line Leads; Pitch 2.54 mm; Pin sequence 1, 3, 2; ComponentLink1Description: Manufacturer Link; ComponentLink1URL: http://www.st.com/
footprint TO220 (TO, Thru-Hole, Vertical, Heatsink Mounted; 3 In-Line Leads; Pitch 2.54 mm)
footprint D2Pak (123) (D2-PAK; 3 Leads (1 Cropped); Body 15.2 (inc. leads) x 10.9 mm (LxW max))
pins: 1 IN (power), 2 GND (power), 3 OUT (power)

## Regulateur MC7805CD2T
designator U?
Three-Terminal Positive Voltage Regulator; Note: Pin 2 is electrically connected to Pin 4; Pin 2 is trimmed and not drawn;; Published: 15-Apr-2002; DatasheetVersion: 1997; PackageVersion: 1997; PackageReference: 936-03; Publisher: Altium Limited; PackageDescription: D2-PAK/TO-263-AB; 3 Leads (1 Cropped); Body 14.7 (inc. leads) x 10.2 mm (LxW max); ComponentLink1Description: Manufacturer Link; ComponentLink1URL: http://www.onsemi.com/site/products/taxonomy/0,4438,503,00.html; ComponentLink2Description: Datasheet; ComponentLink2URL: http://www.onsemi.com/pub/Collateral/MC7800-D.PDF
footprint D2Pak (134) (D2-PAK; 3 Leads (1 Cropped); Body 15.2 (inc. leads) x 10.9 mm (LxW max))
pins: 1 IN (power), 3 OUT (power), 4 GND (power)

## RELAIS_1NO
designator K?  (value not drawn)
HF115F-I/024-1H3AF(610); Type: RELAIS_3022
simulation model SPDTRELAY (Spice Subcircuit)
footprint Relay_1NO (HF115F-I/024-1H3AF(610))
pins: 1 T2, 5 COM, 6 NO, 7 NO, 8 COM, 12 T1

## Relay-DPDT
designator K?
Dual-Pole Dual-Throw Relay; Published: 24-Mar-1999; LatestRevisionDate: 17-Jul-2002; LatestRevisionNote: Re-released for DXP Platform.; PackageReference: DIP-P8; Publisher: Altium Limited
footprint DIP-P8 (Dual-Pole Dual-Throw Relay; 8 Leads)
simulation model DPDTRELAY (Spice Subcircuit)
pins: 1, 2, 3, 4, 5, 6, 7, 8

## Relay-DPST
designator K?
Dual-Pole Single-Throw Relay; Published: 24-Mar-1999; LatestRevisionDate: 17-Jul-2002; LatestRevisionNote: Re-released for DXP Platform.; PackageReference: MODULE6; Publisher: Altium Limited
footprint MODULE6 (DIP; 6 Round Pins; Row Space 20.32 mm; Pitch 2.54 mm)
simulation model DPSTRELAY (Spice Subcircuit)
pins: 1, 2, 3, 4, 5, 6

## Relay-SPDT
designator K?
Single-Pole Dual-Throw Relay; Published: 24-Mar-1999; LatestRevisionDate: 17-Jul-2002; LatestRevisionNote: Re-released for DXP Platform.; PackageReference: MODULE5B; Publisher: Altium Limited
footprint MODULE5B (DIP; 5 Round Pins; Row Space 15.24 mm; Pitch 2.54 mm)
simulation model SPDTRELAY (Spice Subcircuit)
pins: 1, 2, 3, 4, 5

## Relay-SPST
designator K?
Single-Pole Single-Throw Relay; Published: 24-Mar-1999; LatestRevisionDate: 17-Jul-2002; LatestRevisionNote: Re-released for DXP Platform.; PackageReference: MODULE4; Publisher: Altium Limited
footprint MODULE4 (DIP; 4 Round Pins; Row Space 27.94 mm; Pitch 15.24 mm)
simulation model SPSTRELAY (Spice Subcircuit)
pins: 1, 2, 3, 4

## Relay-SPST_2pins_par_sorties
designator K?
OZ-SS-105LM1,200 - Single-Pole Single-Throw Relay; Published: 24-Mar-1999; LatestRevisionDate: 17-Jul-2002; LatestRevisionNote: Re-released for DXP Platform.; PackageReference: MODULE4; Publisher: Altium Limited
footprint RELAY_TECONNECTIVITY (OZ-SS-105LM1,200)
pins: 1, 2, 3, 4, 5, 6, 7, 8

## Resistor
designator R?, comment 1K
Resistor; Published: 8-Jun-2000; LatestRevisionDate: 17-Jul-2002; LatestRevisionNote: Re-released for DXP Platform.; PackageReference: AXIAL-0.5; Publisher: Altium Limited
simulation model RES (Semiconductor Resistor)
signal-integrity model Res Semi
footprint R0402_N (Chip Resistor, Body 1.1x0.5mm, IPC Medium Density)
footprint R0603_N (Chip Resistor, Body 1.6x0.8mm, IPC Medium Density)
footprint R1206_N (Chip Resistor, Body 3.2x1.6mm, IPC Medium Density)
footprint R0805_N (Chip Resistor, Body 2.0x1.3mm, IPC Medium Density)
pins: 1, 2

## Resistor Ajustable
designator R?, comment 10K
Resistor Ajustable; Sim Note: Enter the Resistance value and the set point into parameter fields.; Set Position: 0.5; Published: 8-Jun-2000; LatestRevisionDate: 17-Jul-2002; LatestRevisionNote: Re-released for DXP Platform.; PackageReference: VR5; Publisher: Altium Limited
simulation model POT (Potentiometer)
footprint POT_3150W_CMS a modifier (Trimmer CMS 3150W Tyco)
pins: 1 TOP, 2 TAP, 3 BOT
1 alternate drawing of the same symbol

## Resistor_Thermal_SMD0805
designator PTC?, comment 1k+3900ppm/°c
Resistor_Thermal_SMD0805; Published: 8-Jun-2000; LatestRevisionDate: 17-Jul-2002; LatestRevisionNote: Re-released for DXP Platform.; PackageReference: AXIAL-0.5; Publisher: Altium Limited
footprint R0805_N (Chip Resistor, Body 2.0x1.3mm, IPC Medium Density)
pins: 1, 2

## Self de mode commun WE-744220
designator L?, comment WE-744220
Self de mode commun, Wurth Elektronik, WE-SL2; Manufacturer Part Number: 744220; Inductance: 4.7; DC Current Rating: 500; Max DC Resistance: 0.75; Core Material: Ferrite; Inductor Case Style: 74422; Tolérance d'inductance: ± 50%; RoHS: YES; Série: WE-SL2; Supplier: Farnell; Supplier Part Number: 1636277; Category: Composants passifs; ComponentLink1URL: http://www.farnell.com/datasheets/70375.pdf; ComponentLink1Description: http://www.farnell.com/datasheets/70375.pdf; Pricing: 1=2,1, 10=1,95, 50=1,8, 100=1,69, 250=1,59 (EUR); Manufacturer: WURTH ELEKTRONIK
signal-integrity model Inductor Isolated
footprint Self de mode commun Wurth Elektronik WE-SL2
pins: 1, 2, 3, 4

## SW SPDT- APEM Série 523x
designator SW?
Switch unipolaire a levier
pins: COMMON1, NC1, NO1

## SW_Pushbutton_6x6mm_Vertical
designator S?
Switch tactil 6mm x 6mm Vertical; Published: 27/11/09; PackageReference: 6mm X 6mm; Publisher: Damien Guitton
footprint Switch 6x6 Vertical
footprint Switch 6x6 Vertical  CMS (Switch tactil 6x6 Vertical  CMS)
pins: 1, 3

## SWITCH DIP2
designator S?
DIP Switch, 2 Position, SPST; Published: 24-Mar-1999; LatestRevisionDate: 17-Jul-2002; LatestRevisionNote: Re-released for DXP Platform.; PackageReference: DIP-4; Publisher: Altium Limited
simulation model dpsw2 (Spice Subcircuit)
footprint DIPSW2 (Thru-Hole DIP Switches; SPST; 2 Position; Pin Spacing=2.54mm)
pins: 1 A1, 2 A2, 3 B2, 4 B1

## SWITCH DIP3
designator S?
DIP Switch, 3 Position, SPST; Published: 24-Mar-1999; LatestRevisionDate: 17-Jul-2002; LatestRevisionNote: Re-released for DXP Platform.; PackageReference: DIP-6; Publisher: Altium Limited; Code_JEDEC: MO-001-AM
simulation model dpsw3 (Spice Subcircuit)
footprint DIPSW3 (Thru-Hole DIP Switches; SPST; 3 Position; Pin Spacing=2.54mm)
pins: 1 A1, 2 A2, 3 A3, 4 B3, 5 B2, 6 B1

## SWITCH DIP4
designator S?
DIP Switch, 4 Position, SPST; Published: 24-Mar-1999; LatestRevisionDate: 17-Jul-2002; LatestRevisionNote: Re-released for DXP Platform.; PackageReference: SO8; Publisher: Altium Limited; Code_JEDEC: MS-012-AA; Code_IPC: SO8
simulation model dpsw4 (Spice Subcircuit)
footprint DIPSW4 (Thru-Hole DIP Switches; SPST; 4 Position; Pin Spacing=2.54mm)
pins: 1 A1, 2 A2, 3 A3, 4 A4, 5 B4, 6 B3, 7 B2, 8 B1

## SWITCH DIP6
designator S?
DIP Switch, 6 Position, SPST; Published: 24-Mar-1999; LatestRevisionDate: 17-Jul-2002; LatestRevisionNote: Re-released for DXP Platform.; PackageReference: DIP-12/SW; Publisher: Altium Limited
simulation model dpsw6 (Spice Subcircuit)
footprint DIPSW6 (Thru-Hole DIP Switches; SPST; 6 Position; Pin Spacing=2.54mm)
pins: 1 A1, 2 A2, 3 A3, 4 A4, 5 A5, 6 A6, 7 B6, 8 B5, 9 B4, 10 B3, 11 B2, 12 B1

## SWITCH DIP8
designator S?
DIP Switch, 8 Position, SPST; Published: 24-Mar-1999; LatestRevisionDate: 17-Jul-2002; LatestRevisionNote: Re-released for DXP Platform.; PackageReference: DIP_SW_8WAY_SMD; Publisher: Altium Limited
simulation model dpsw8 (Spice Subcircuit)
footprint DIPSW8 (Thru-Hole DIP Switches; SPST; 8 Position; Pin Spacing=2.54mm)
pins: 1 A1, 2 A2, 3 A3, 4 A4, 5 A5, 6 A6, 7 A7, 8 A8, 9 B8, 10 B7, 11 B6, 12 B5, 13 B4, 14 B3, 15 B2, 16 B1

## TRACO THN 20-4811Wi
designator *  Ref: THN 20-4811Wi
Traco 20W 24V to 5V*4A
footprint TRACO_THN20 (THN20)
pins: 1 +Vin, 2 -Vin, 3 +Vout1, 4 trim, 5 -Vout1, 6 on_off

## TRACO_5V_2A
designator U?
TEN102411
footprint TRACO_TEN10 (Single TRACO-POWER module TEN10)
pins: 1 +Vin, 2 -Vin, 3 +Vout, 4 Not Connected, 5 -Vout

## TRACO_12V_5A
designator *
footprint TRACO_SIMPLE_12V_5A (DoubleTRACO-POWER module)
pins: 1 +Vin, 2 -Vin, 3 Remote, 4 -sense, 5 +sense, 6 +Vout, 7 -Vout, 8 trim

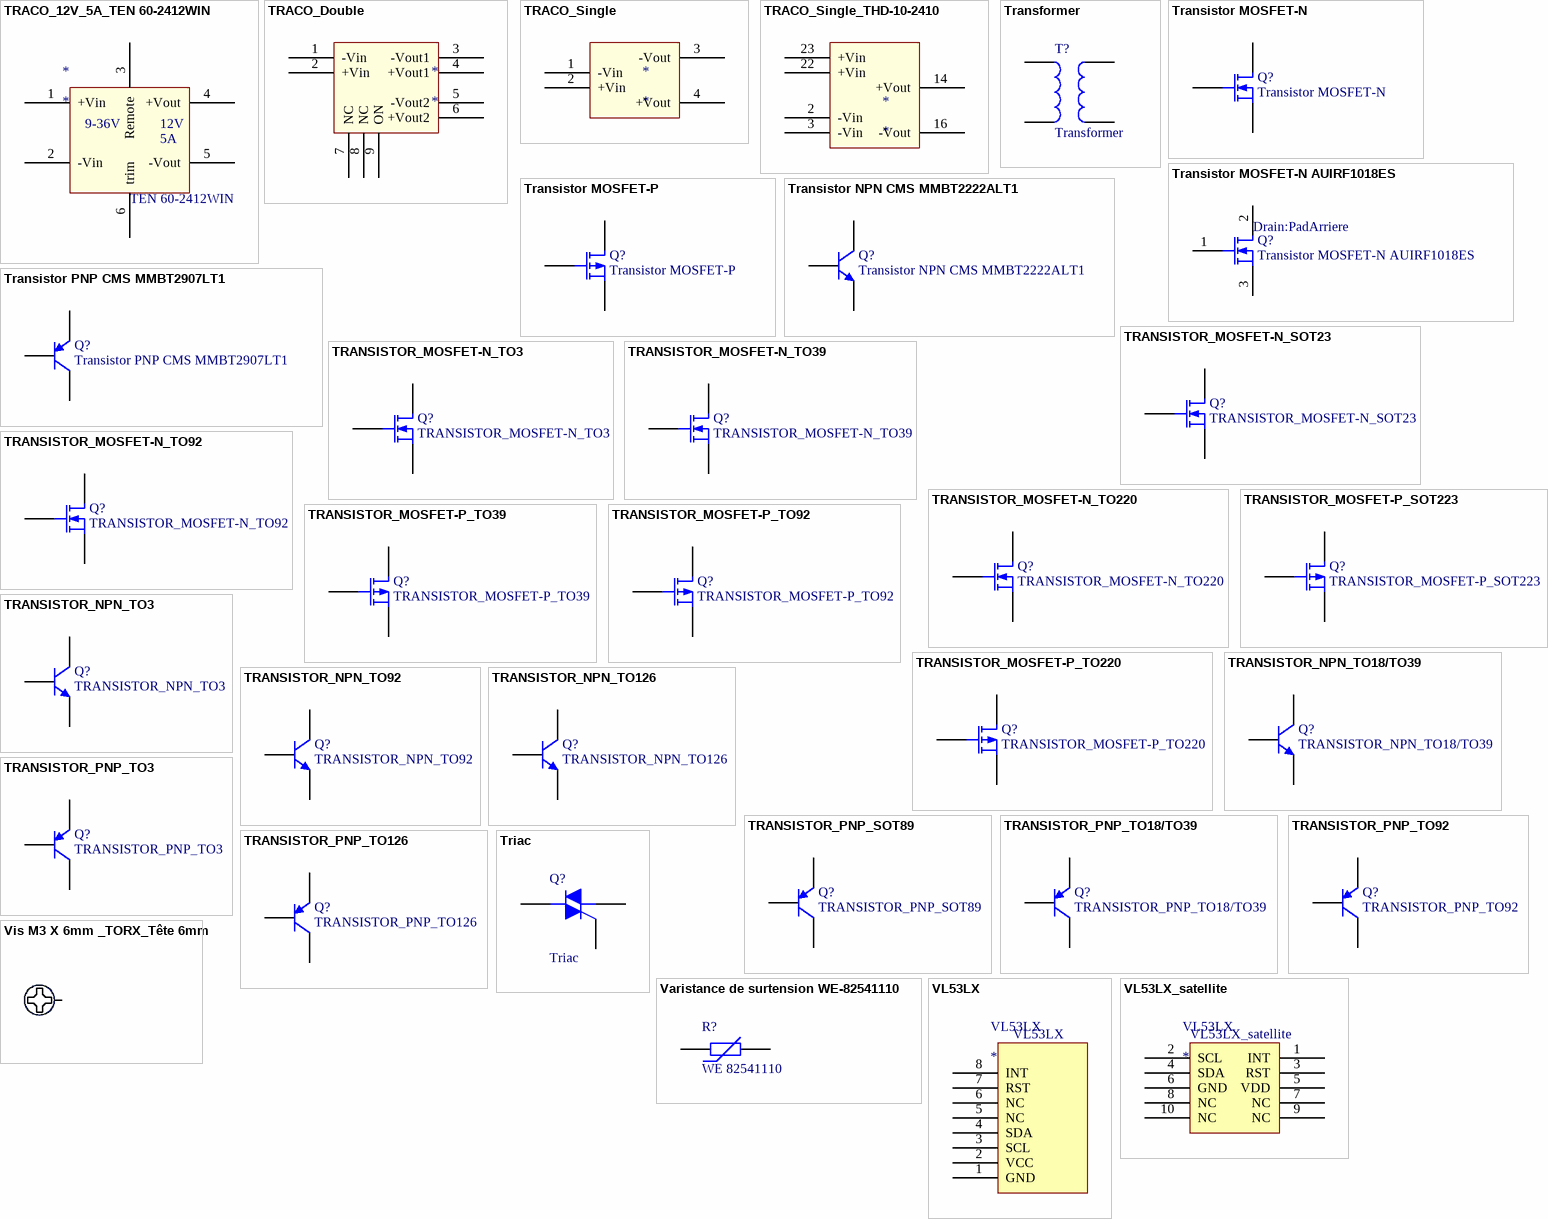
[diagram p2: symbols TRACO_12V_5A_TEN 60-2412WIN to VL53LX_satellite]

## TRACO_12V_5A_TEN 60-2412WIN
designator *
footprint TRACO_TEN60 (Single TRACO-POWER module TEN60)
pins: 1 +Vin, 2 -Vin, 3 Remote, 4 +Vout, 5 -Vout, 6 trim
text: 9-36V; 12V; 5A; TEN 60-2412WIN

## TRACO_Double
designator *
footprint TRACO_Double (DoubleTRACO-POWER module)
pins: 1 -Vin, 2 +Vin, 3 -Vout1, 4 +Vout1, 5 -Vout2, 6 +Vout2, 7 NC, 8 NC, 9 ON

## TRACO_Single
designator *
footprint Model Name (Footprint not found)
footprint TRACO_Single (Single TRACO-POWER module)
pins: 1 -Vin, 2 +Vin, 3 -Vout, 4 +Vout

## TRACO_Single_THD-10-2410
designator *
footprint Model Name (Footprint not found)
footprint TRACO_Single - 3.3V 3A THD-10-2410 (Single TRACO-POWER module)
pins: 2 -Vin, 3 -Vin, 14 +Vout, 16 -Vout, 22 +Vin, 23 +Vin

## Transformer
designator T?
Published: 24-Mar-1999; LatestRevisionDate: 08-Jul-2005; LatestRevisionNote: Mech Layer 1 removed.; PackageReference: TRANS; Publisher: Altium Limited
footprint TRANS (Transformer; 4 Leads)
simulation model TRANSFORMER (Transformer)
pins: 1, 2, 3, 4

## Transistor MOSFET-N
designator Q?
N-Channel MOSFET; PackageDocument: 1995/1996; Published: 8-Jun-2000; LatestRevisionDate: 17-Jul-2002; LatestRevisionNote: Re-released for DXP Platform.; PackageReference: E3; Publisher: Altium Limited
simulation model NMOS (MOSFET-N)
footprint SOT23-3N (SOT23, 3-Leads, Body 2.9x1.3mm, Pitch 0.95mm, Lead Span 2.5mm, IPC Medium Density)
pins: 1 G, 2 S, 3 D

## Transistor MOSFET-N AUIRF1018ES
designator Q?
N-Channel MOSFET; PackageDocument: 1995/1996; Published: 8-Jun-2000; LatestRevisionDate: 17-Jul-2002; LatestRevisionNote: Re-released for DXP Platform.; PackageReference: E3; Publisher: Altium Limited
simulation model NMOS (MOSFET-N)
footprint D2PAK_GROS_PAD (D2-PAK/TO-263-AB; 3 Leads (1 Cropped); Body 15.5 (inc. leads) x 10.5 mm (LxW max))
pins: 1 G, 2 D, 3 S
text: Drain:PadArriere

## Transistor MOSFET-P
designator Q?
P-Channel MOSFET; PackageDocument: 1995/1996; Published: 8-Jun-2000; LatestRevisionDate: 17-Jul-2002; LatestRevisionNote: Re-released for DXP Platform.; PackageReference: E3; Publisher: Altium Limited
simulation model PMOS (MOSFET-P)
footprint SOT23-3N (SOT23, 3-Leads, Body 2.9x1.3mm, Pitch 0.95mm, Lead Span 2.5mm, IPC Medium Density)
pins: 1 D, 2 G, 3 S

## Transistor NPN CMS MMBT2222ALT1
designator Q?
General Purpose Transistor NPN Silicon; Published: 29-Sep-2000; LatestRevisionDate: 17-Jul-2002; LatestRevisionNote: Re-released for DXP Platform.; DatasheetVersion: 1996; PackageVersion: 1997; PackageReference: 318-08; Publisher: Altium Limited; PackageDescription: SOT-23; 3 Leads; Body 3.0 x 2.6 mm, inc. leads (LxW max); ComponentLink1Description: Manufacturer Link; ComponentLink1URL: http://www.onsemi.com/site/products/landing?taxonomyID=194; ComponentLink2Description: Datasheet; ComponentLink2URL: http://www.onsemi.com/pub/Collateral/MMBT2222LT1-D.PDF
footprint SOT23-3N (SOT23, 3-Leads, Body 2.9x1.3mm, Pitch 0.95mm, Lead Span 2.5mm, IPC Medium Density)
simulation model MMBT2222ALT1 (NPN)
signal-integrity model MMBT2222ALT1
pins: 1 B, 2 E, 3 C

## Transistor PNP CMS MMBT2907LT1
designator Q?
General Purpose Transistor PNP Silicon; Published: 29-Sep-2000; LatestRevisionDate: 17-Jul-2002; LatestRevisionNote: Re-released for DXP Platform.; DatasheetVersion: 1996; PackageVersion: 1997; PackageReference: 318-08; Publisher: Altium Limited; PackageDescription: SOT-23; 3 Leads; Body 3.0 x 2.6 mm, inc. leads (LxW max); ComponentLink1Description: Manufacturer Link; ComponentLink1URL: http://www.onsemi.com/site/products/landing?taxonomyID=194
simulation model MMBT2907LT1 (PNP)
signal-integrity model MMBT2907LT1
footprint SOT23-3N (SOT23, 3-Leads, Body 2.9x1.3mm, Pitch 0.95mm, Lead Span 2.5mm, IPC Medium Density)
pins: 1 B, 2 E, 3 C

## TRANSISTOR_MOSFET-N_SOT23
designator Q?
N-Channel MOSFET; PackageDocument: 1995/1996; Published: 8-Jun-2000; LatestRevisionDate: 17-Jul-2002; LatestRevisionNote: Re-released for DXP Platform.; PackageReference: E3; Publisher: Altium Limited
simulation model NMOS (MOSFET-N)
footprint SOT23 (SOT-23; 3 Leads; Body 3.0 x 2.5 mm, inc. leads (LxW max))
pins: 1 G, 2 S, 3 D

## TRANSISTOR_MOSFET-N_TO3
designator Q?
N-Channel MOSFET; PackageDocument: 1995/1996; Published: 8-Jun-2000; LatestRevisionDate: 17-Jul-2002; LatestRevisionNote: Re-released for DXP Platform.; PackageReference: E3; Publisher: Altium Limited
simulation model NMOS (MOSFET-N)
footprint TO3 (Oval Flange Mount with (2) Offset Leads; Pin Spacing 10.92 mm; Lead Dia. 1.57 mm (max))
pins: 1 G, 2 S, 3 D

## TRANSISTOR_MOSFET-N_TO39
designator Q?
N-Channel MOSFET; PackageDocument: 1995/1996; Published: 8-Jun-2000; LatestRevisionDate: 17-Jul-2002; LatestRevisionNote: Re-released for DXP Platform.; PackageReference: E3; Publisher: Altium Limited
simulation model NMOS (MOSFET-N)
footprint TO39 (Can; 3 Leads; Pin Circle Dia. 5.08 mm; Lead Dia. 0.48 mm (max))
pins: 1 S, 2 G, 3 D

## TRANSISTOR_MOSFET-N_TO92
designator Q?
N-Channel MOSFET; PackageDocument: 1995/1996; Published: 8-Jun-2000; LatestRevisionDate: 17-Jul-2002; LatestRevisionNote: Re-released for DXP Platform.; PackageReference: E3; Publisher: Altium Limited
simulation model NMOS (MOSFET-N)
footprint TO92 (TO, Flat Index; 3 In-Line, Axial Leads; Body Dia. 4.5mm; Leads 0.51 x 0.48 mm (max))
pins: 1 S, 2 G, 3 D

## TRANSISTOR_MOSFET-N_TO220
designator Q?
N-Channel MOSFET; PackageDocument: 1995/1996; Published: 8-Jun-2000; LatestRevisionDate: 17-Jul-2002; LatestRevisionNote: Re-released for DXP Platform.; PackageReference: E3; Publisher: Altium Limited
simulation model NMOS (MOSFET-N)
footprint TO220 (TO, Thru-Hole, Vertical, Heatsink Mounted; 3 In-Line Leads; Pitch 2.54 mm)
pins: 1 G, 2 D, 3 S

## TRANSISTOR_MOSFET-P_SOT223
designator Q?
P-Channel MOSFET; PackageDocument: 1995/1996; Published: 8-Jun-2000; LatestRevisionDate: 17-Jul-2002; LatestRevisionNote: Re-released for DXP Platform.; PackageReference: E3; Publisher: Altium Limited
simulation model PMOS (MOSFET-P)
footprint SOT223 (SOT-223/SC-73; 4 Leads; Body 6.7 x 7.3 mm, inc. leads (LxW max))
pins: 1 G, 2 D, 3 S

## TRANSISTOR_MOSFET-P_TO39
designator Q?
P-Channel MOSFET; PackageDocument: 1995/1996; Published: 8-Jun-2000; LatestRevisionDate: 17-Jul-2002; LatestRevisionNote: Re-released for DXP Platform.; PackageReference: E3; Publisher: Altium Limited
simulation model PMOS (MOSFET-P)
footprint TO39 (Can; 3 Leads; Pin Circle Dia. 5.08 mm; Lead Dia. 0.48 mm (max))
pins: 1 3, 1 S, 2 G

## TRANSISTOR_MOSFET-P_TO92
designator Q?
P-Channel MOSFET; PackageDocument: 1995/1996; Published: 8-Jun-2000; LatestRevisionDate: 17-Jul-2002; LatestRevisionNote: Re-released for DXP Platform.; PackageReference: E3; Publisher: Altium Limited
simulation model PMOS (MOSFET-P)
footprint TO92 (TO, Flat Index; 3 In-Line, Axial Leads; Body Dia. 4.5mm; Leads 0.51 x 0.48 mm (max))
pins: 1 D, 2 G, 3 S

## TRANSISTOR_MOSFET-P_TO220
designator Q?
P-Channel MOSFET; PackageDocument: 1995/1996; Published: 8-Jun-2000; LatestRevisionDate: 17-Jul-2002; LatestRevisionNote: Re-released for DXP Platform.; PackageReference: E3; Publisher: Altium Limited
simulation model PMOS (MOSFET-P)
footprint TO220 (TO, Thru-Hole, Vertical, Heatsink Mounted; 3 In-Line Leads; Pitch 2.54 mm)
pins: 1 G, 2 D, 3 S

## TRANSISTOR_NPN_TO3
designator Q?
NPN Bipolar Transistor; Published: 8-Jun-2000; LatestRevisionDate: 17-Jul-2002; LatestRevisionNote: Re-released for DXP Platform.; PackageReference: TO-226; Publisher: Altium Limited; Code_JEDEC: TO-226-AA
simulation model NPN
signal-integrity model NPN
footprint TO3 (Oval Flange Mount with (2) Offset Leads; Pin Spacing 10.92 mm; Lead Dia. 1.57 mm (max))
pins: 1 E, 2 B, 3 C

## TRANSISTOR_NPN_TO18/TO39
designator Q?
NPN Bipolar Transistor; Published: 8-Jun-2000; LatestRevisionDate: 17-Jul-2002; LatestRevisionNote: Re-released for DXP Platform.; PackageReference: TO-226; Publisher: Altium Limited; Code_JEDEC: TO-226-AA
simulation model NPN
signal-integrity model NPN
footprint TO18 (Can; 3 Leads; Pin Circle Dia. 2.54 mm; Lead Dia. 0.48 mm (max))
footprint TO39 (Can; 3 Leads; Pin Circle Dia. 5.08 mm; Lead Dia. 0.48 mm (max))
pins: 1 E, 2 B, 3 C

## TRANSISTOR_NPN_TO92
designator Q?
NPN Bipolar Transistor; Published: 8-Jun-2000; LatestRevisionDate: 17-Jul-2002; LatestRevisionNote: Re-released for DXP Platform.; PackageReference: TO-226; Publisher: Altium Limited; Code_JEDEC: TO-226-AA
simulation model NPN
signal-integrity model NPN
footprint TO92 (TO, Flat Index; 3 In-Line, Axial Leads; Body Dia. 4.5mm; Leads 0.51 x 0.48 mm (max))
pins: 1 E, 2 C, 3 B

## TRANSISTOR_NPN_TO126
designator Q?
NPN Bipolar Transistor; Published: 8-Jun-2000; LatestRevisionDate: 17-Jul-2002; LatestRevisionNote: Re-released for DXP Platform.; PackageReference: TO-226; Publisher: Altium Limited; Code_JEDEC: TO-226-AA
simulation model NPN
signal-integrity model NPN
footprint TO126 (TO-126 Package Plastic, Pitch=2.54mm)
pins: 1 E, 2 C, 3 B

## TRANSISTOR_PNP_SOT89
designator Q?
PNP Bipolar Transistor; Published: 8-Jun-2000; LatestRevisionDate: 17-Jul-2002; LatestRevisionNote: Re-released for DXP Platform.; PackageReference: SOT-23B; Publisher: Altium Limited; Code_JEDEC: SOT-23
simulation model PNP
signal-integrity model PNP
footprint SOT89 (SOT-89; Body 4.6 x 4.25 mm, inc. leads (LxW max))
pins: 1 B, 2 C, 3 E

## TRANSISTOR_PNP_TO3
designator Q?
PNP Bipolar Transistor; Published: 8-Jun-2000; LatestRevisionDate: 17-Jul-2002; LatestRevisionNote: Re-released for DXP Platform.; PackageReference: SOT-23B; Publisher: Altium Limited; Code_JEDEC: SOT-23
simulation model PNP
signal-integrity model PNP
footprint TO3 (Oval Flange Mount with (2) Offset Leads; Pin Spacing 10.92 mm; Lead Dia. 1.57 mm (max))
pins: 1 E, 2 B, 3 C

## TRANSISTOR_PNP_TO18/TO39
designator Q?
PNP Bipolar Transistor; Published: 8-Jun-2000; LatestRevisionDate: 17-Jul-2002; LatestRevisionNote: Re-released for DXP Platform.; PackageReference: SOT-23B; Publisher: Altium Limited; Code_JEDEC: SOT-23
simulation model PNP
signal-integrity model PNP
footprint TO18 (Can; 3 Leads; Pin Circle Dia. 2.54 mm; Lead Dia. 0.48 mm (max))
footprint TO39 (Can; 3 Leads; Pin Circle Dia. 5.08 mm; Lead Dia. 0.48 mm (max))
pins: 1 E, 2 B, 3 C

## TRANSISTOR_PNP_TO92
designator Q?
PNP Bipolar Transistor; Published: 8-Jun-2000; LatestRevisionDate: 17-Jul-2002; LatestRevisionNote: Re-released for DXP Platform.; PackageReference: SOT-23B; Publisher: Altium Limited; Code_JEDEC: SOT-23
simulation model PNP
signal-integrity model PNP
footprint TO92 (TO, Flat Index; 3 In-Line, Axial Leads; Body Dia. 4.5mm; Leads 0.51 x 0.48 mm (max))
pins: 1 E, 2 C, 3 B

## TRANSISTOR_PNP_TO126
designator Q?
PNP Bipolar Transistor; Published: 8-Jun-2000; LatestRevisionDate: 17-Jul-2002; LatestRevisionNote: Re-released for DXP Platform.; PackageReference: SOT-23B; Publisher: Altium Limited; Code_JEDEC: SOT-23
simulation model PNP
signal-integrity model PNP
footprint TO126 (TO-126 Package Plastic, Pitch=2.54mm)
pins: 1 E, 2 C, 3 B

## Triac
designator Q?
Silicon Bidirectional Triode Thyristor; Note: Pin 2 is electrically connected to Pin 4 (TAB); Published: 29-Sep-2000; LatestRevisionDate: 17-Jul-2002; LatestRevisionNote: Re-released for DXP Platform.; DatasheetDocument: 1999; PackageReference: 369-03; Publisher: Altium Limited; Code_JEDEC: TO-251-AA; ComponentLink1Description: Manufacturer Link; ComponentLink1URL: http://www.motorola.com/
footprint 369-03 (TO, Thru-Hole, Vertical, Heatsink Mounted; 3 In-Line Leads; Pitch 2.28 mm)
simulation model MAC15A8 (Spice Subcircuit)
pins: 1 M1, 2 M2, 3 G

## Varistance de surtension WE-82541110
designator R?, comment WE 82541110
VARISTANCE DE SURTENSION CMS 1206 11VRMS, WURTH ELEKTRONIK - 82541110; Pointe de courant: 200; Tension, blocage: 35; Type de suppresseur: Varistor; Tension c.c.: 14; Série: WE-VS; Tension c.a.: 11; Energie transitoire maxi, 10/1000us: 0.5; ComponentLink1URL: http://www.farnell.com/datasheets/78092.pdf; ComponentLink1Description: http://www.farnell.com/datasheets/78092.pdf; Supplier Part Number: 1636447; Category: Semiconducteurs - Composants discrets; RoHS: YES; Supplier: Farnell; Pricing: 1=0,65, 10=0,62, 50=0,58, 100=0,55, 250=0,51 (EUR); Manufacturer: WURTH ELEKTRONIK; Manufacturer Part Number: 82541110
footprint R1206_N (Chip Resistor, Body 3.2x1.6mm, IPC Medium Density)
pins: 1, 2

## Vis M3 X 6mm _TORX_Tête 6mm
designator MH?, comment Pad_M3
Vis M3 X 6mm _TORX_Tête 6mm; Publisher: Damien Guitton
footprint M3x6mm (Vis M3 X 6mm _TORX_Tête 6mm)
footprint M3x6mm (Vis M3 X 6mm _TORX_Tête 6mm)
footprint M3x6mm (Vis M3 X 6mm _TORX_Tête 6mm)
pins: 1

## VL53LX
designator VL53LX
footprint VL53LX
pins: 1 GND, 2 VCC, 3 SCL, 4 SDA, 5 NC, 6 NC, 7 RST, 8 INT

## VL53LX_satellite
designator VL53LX
footprint VL53LX - Satellite
footprint VL53LX - Satellite - HDR2x3
pins: 1 INT, 2 SCL, 3 RST, 4 SDA, 5 VDD, 6 GND, 7 NC, 8 NC, 9 NC, 10 NC